# Altium integrated library TI Data Converters Analog to Digital Converter.IntLib: 2198 symbols (part 83 of 164)
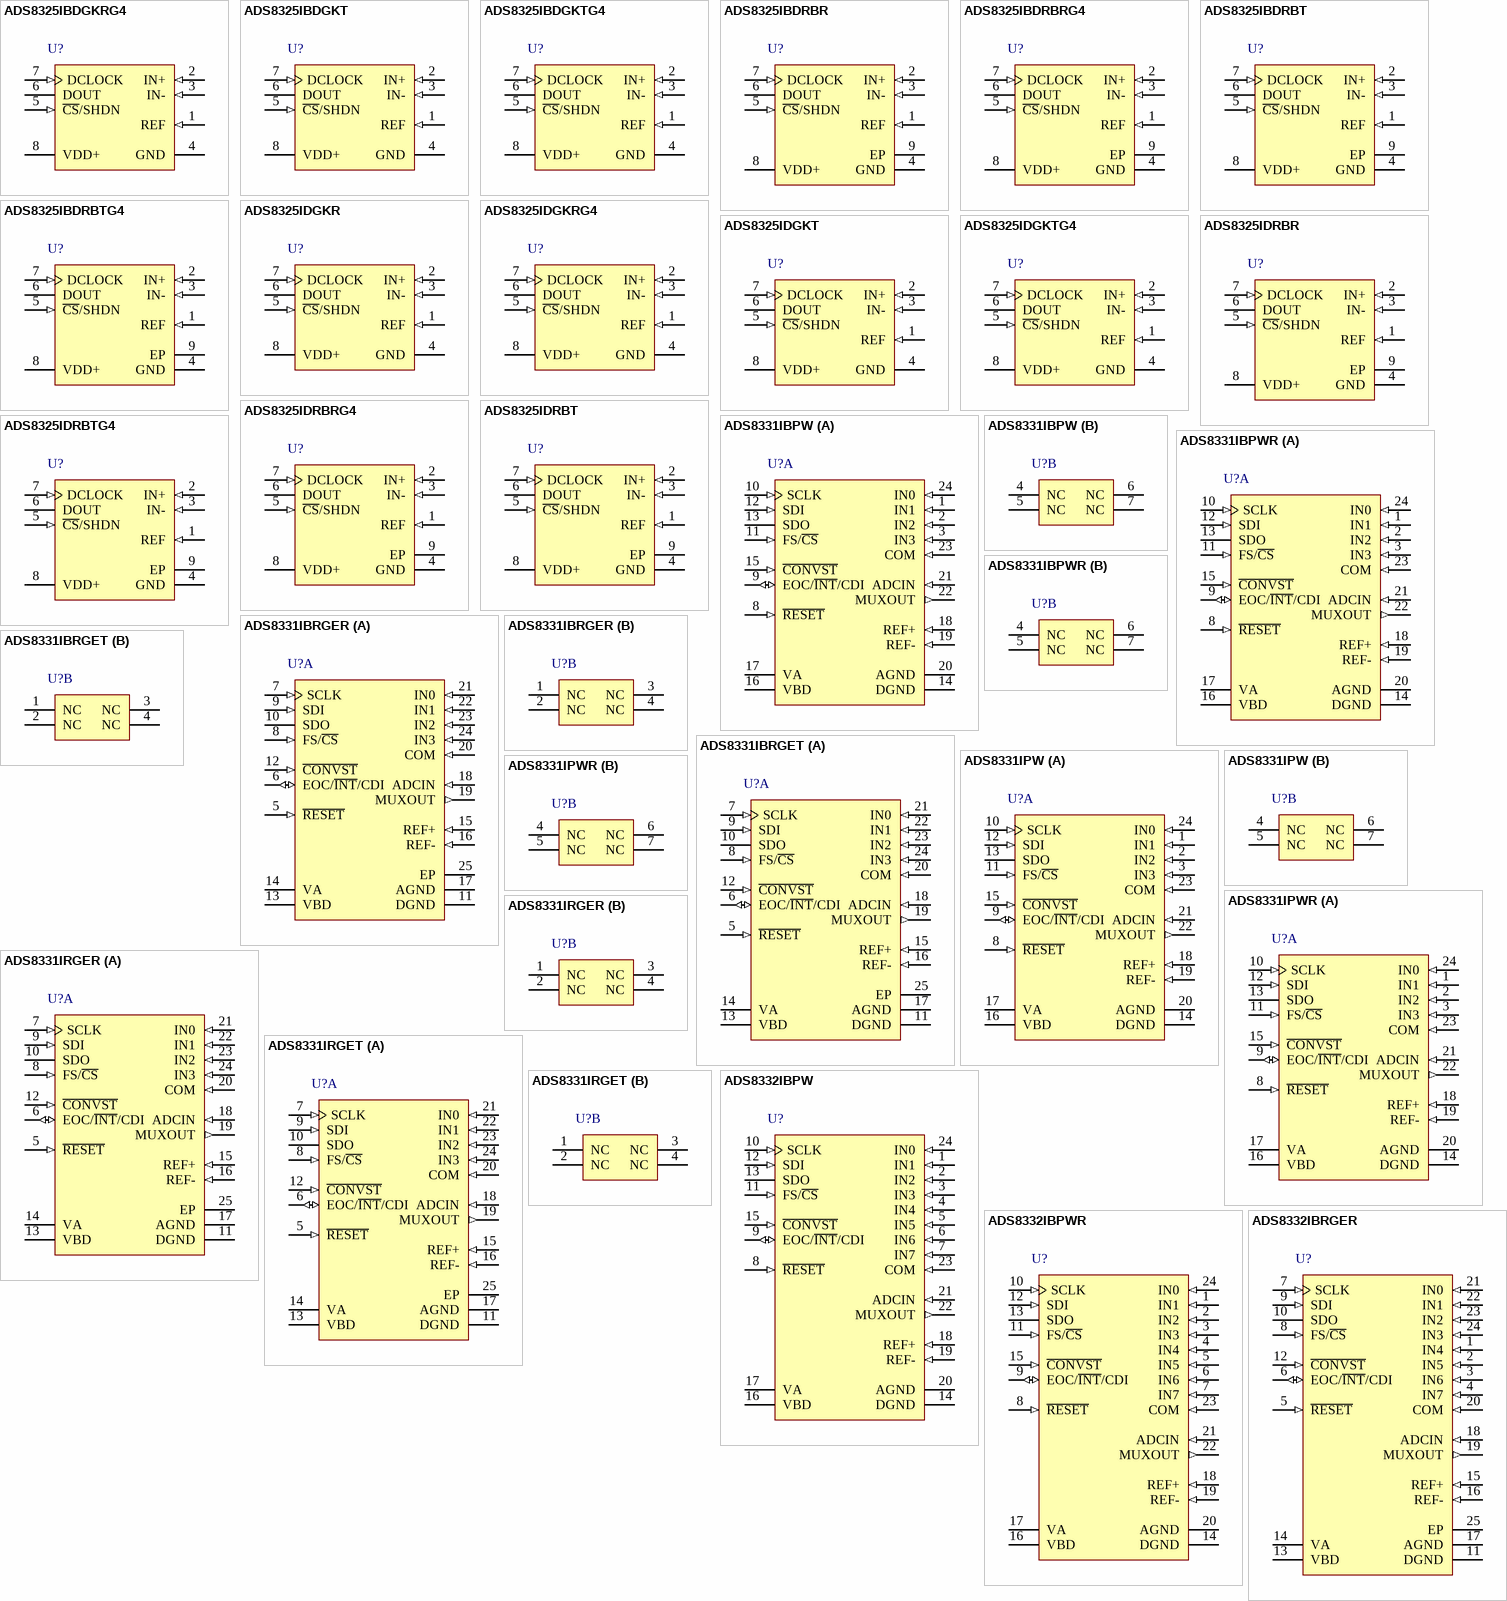
[diagram p208: symbols ADS8325IBDGKRG4 to ADS8332IBRGER]

## ADS8325IBDRBR
designator U?
16-Bit, 100 kSPS Serial Out, 2.7 to 5.5 V Micro Power Sampling ADC, -40 to 85 degC, 8-pin SON (DRB8), Green (RoHS & no Sb/Br); Manufacturer: Texas Instruments; PartNumber: ADS8325IBDRBR; # Input Channels: 1; Analog Voltage AV/DD(Max)(V): 5.5; Analog Voltage AV/DD(Min)(V): 2.7; Architecture: SAR; ENOB(Bits): 14.7; INL(Max)(+/-LSB): 4; Interface: Serial SPI; Resolution(Bits): 16; Sample Rate (max)(SPS): 100k; SFDR(dB): 108; SINAD(dB): 91; SubFamily: Precision ADC (<=10MSPS); DatasheetVersion: SBAS226C; PackageVersion: 4203482-2/K, 06/2012; PackageReference: DRB8-2400X1650TP; PackageDescription: 8-Pin Plastic Small Outline, Body 3 x 3 mm, Pitch 0.65 mm; Supplier 1: Digi-Key; Supplier Part Number 1: ADS803E-ND; Digital Supply(Max)(V): 5.5; Digital Supply(Min)(V): 2.7; Eco-Plan: Green (RoHS & no Sb/Br); SNR(dB): 91; Mounting Technology: Surface Mount; ComponentLink1Description: Manufacturer URL; ComponentLink1URL: http://www.ti.com/; ComponentLink2Description: Datasheet; ComponentLink2URL: http://www.ti.com/general/docs/lit/getliterature.tsp?genericPartNumber=ADS8325&fileType=pdf; ComponentLink3Description: Package Specification; ComponentLink3URL: http://www.ti.com/litv/pdf/mpds118h
footprint TI-DRB8-2400X1650TP_V (SON, 8-Leads, Body 3x3mm, Pitch 0.65mm, Thermal Pad 2.4x1.65mm)
pins: 1 REF (in) "Reference Input", 2 IN+ (in) "Noninverting Input", 3 IN- (in) "Inverting Analog Input", 4 GND (power) "Ground", 5 ~{CS}/SHDN (in) "Chip select when low; Shutdown mode when high.", 6 DOUT (hiz) "The serial output data word.", 7 DCLOCK (in) "Data clock synchronizes the serial data transfer and determines conversion speed.", 8 VDD+ (power) "Power supply", 9 EP (power)

## ADS8325IBDRBRG4
designator U?
16-Bit, 100 kSPS Serial Out, 2.7 to 5.5 V Micro Power Sampling ADC, -40 to 85 degC, 8-pin SON (DRB8), Green (RoHS & no Sb/Br); Manufacturer: Texas Instruments; PartNumber: ADS8325IBDRBRG4; # Input Channels: 1; Analog Voltage AV/DD(Max)(V): 5.5; Analog Voltage AV/DD(Min)(V): 2.7; Architecture: SAR; ENOB(Bits): 14.7; INL(Max)(+/-LSB): 4; Interface: Serial SPI; Resolution(Bits): 16; Sample Rate (max)(SPS): 100k; SFDR(dB): 108; SINAD(dB): 91; SubFamily: Precision ADC (<=10MSPS); DatasheetVersion: SBAS226C; PackageVersion: 4203482-2/K, 06/2012; PackageReference: DRB8-2400X1650TP; PackageDescription: 8-Pin Plastic Small Outline, Body 3 x 3 mm, Pitch 0.65 mm; Supplier 1: Digi-Key; Supplier Part Number 1: ADS803E/1K-ND; Digital Supply(Max)(V): 5.5; Digital Supply(Min)(V): 2.7; Eco-Plan: Green (RoHS & no Sb/Br); SNR(dB): 91; Mounting Technology: Surface Mount; ComponentLink1Description: Manufacturer URL; ComponentLink1URL: http://www.ti.com/; ComponentLink2Description: Datasheet; ComponentLink2URL: http://www.ti.com/general/docs/lit/getliterature.tsp?genericPartNumber=ADS8325&fileType=pdf; ComponentLink3Description: Package Specification; ComponentLink3URL: http://www.ti.com/litv/pdf/mpds118h
footprint TI-DRB8-2400X1650TP_V (SON, 8-Leads, Body 3x3mm, Pitch 0.65mm, Thermal Pad 2.4x1.65mm)
pins: 1 REF (in) "Reference Input", 2 IN+ (in) "Noninverting Input", 3 IN- (in) "Inverting Analog Input", 4 GND (power) "Ground", 5 ~{CS}/SHDN (in) "Chip select when low; Shutdown mode when high.", 6 DOUT (hiz) "The serial output data word.", 7 DCLOCK (in) "Data clock synchronizes the serial data transfer and determines conversion speed.", 8 VDD+ (power) "Power supply", 9 EP (power)

## ADS8325IBDRBT
designator U?
16-Bit, 100 kSPS Serial Out, 2.7 to 5.5 V Micro Power Sampling ADC, -40 to 85 degC, 8-pin SON (DRB8), Green (RoHS & no Sb/Br); Manufacturer: Texas Instruments; PartNumber: ADS8325IBDRBT; # Input Channels: 1; Analog Voltage AV/DD(Max)(V): 5.5; Analog Voltage AV/DD(Min)(V): 2.7; Architecture: SAR; ENOB(Bits): 14.7; INL(Max)(+/-LSB): 4; Interface: Serial SPI; Resolution(Bits): 16; Sample Rate (max)(SPS): 100k; SFDR(dB): 108; SINAD(dB): 91; SubFamily: Precision ADC (<=10MSPS); DatasheetVersion: SBAS226C; PackageVersion: 4203482-2/K, 06/2012; PackageReference: DRB8-2400X1650TP; PackageDescription: 8-Pin Plastic Small Outline, Body 3 x 3 mm, Pitch 0.65 mm; Supplier 1: Digi-Key; Supplier Part Number 1: ADS803E/1KG4-ND; Digital Supply(Max)(V): 5.5; Digital Supply(Min)(V): 2.7; Eco-Plan: Green (RoHS & no Sb/Br); SNR(dB): 91; Mounting Technology: Surface Mount; ComponentLink1Description: Manufacturer URL; ComponentLink1URL: http://www.ti.com/; ComponentLink2Description: Datasheet; ComponentLink2URL: http://www.ti.com/general/docs/lit/getliterature.tsp?genericPartNumber=ADS8325&fileType=pdf; ComponentLink3Description: Package Specification; ComponentLink3URL: http://www.ti.com/litv/pdf/mpds118h
footprint TI-DRB8-2400X1650TP_V (SON, 8-Leads, Body 3x3mm, Pitch 0.65mm, Thermal Pad 2.4x1.65mm)
pins: 1 REF (in) "Reference Input", 2 IN+ (in) "Noninverting Input", 3 IN- (in) "Inverting Analog Input", 4 GND (power) "Ground", 5 ~{CS}/SHDN (in) "Chip select when low; Shutdown mode when high.", 6 DOUT (hiz) "The serial output data word.", 7 DCLOCK (in) "Data clock synchronizes the serial data transfer and determines conversion speed.", 8 VDD+ (power) "Power supply", 9 EP (power)

## ADS8325IBDRBTG4
designator U?
16-Bit, 100 kSPS Serial Out, 2.7 to 5.5 V Micro Power Sampling ADC, -40 to 85 degC, 8-pin SON (DRB8), Green (RoHS & no Sb/Br); Manufacturer: Texas Instruments; PartNumber: ADS8325IBDRBTG4; # Input Channels: 1; Analog Voltage AV/DD(Max)(V): 5.5; Analog Voltage AV/DD(Min)(V): 2.7; Architecture: SAR; ENOB(Bits): 14.7; INL(Max)(+/-LSB): 4; Interface: Serial SPI; Resolution(Bits): 16; Sample Rate (max)(SPS): 100k; SFDR(dB): 108; SINAD(dB): 91; SubFamily: Precision ADC (<=10MSPS); DatasheetVersion: SBAS226C; PackageVersion: 4203482-2/K, 06/2012; PackageReference: DRB8-2400X1650TP; PackageDescription: 8-Pin Plastic Small Outline, Body 3 x 3 mm, Pitch 0.65 mm; Supplier 1: Digi-Key; Supplier Part Number 1: ADS803EG4-ND; Digital Supply(Max)(V): 5.5; Digital Supply(Min)(V): 2.7; Eco-Plan: Green (RoHS & no Sb/Br); SNR(dB): 91; Mounting Technology: Surface Mount; ComponentLink1Description: Manufacturer URL; ComponentLink1URL: http://www.ti.com/; ComponentLink2Description: Datasheet; ComponentLink2URL: http://www.ti.com/general/docs/lit/getliterature.tsp?genericPartNumber=ADS8325&fileType=pdf; ComponentLink3Description: Package Specification; ComponentLink3URL: http://www.ti.com/litv/pdf/mpds118h
footprint TI-DRB8-2400X1650TP_V (SON, 8-Leads, Body 3x3mm, Pitch 0.65mm, Thermal Pad 2.4x1.65mm)
pins: 1 REF (in) "Reference Input", 2 IN+ (in) "Noninverting Input", 3 IN- (in) "Inverting Analog Input", 4 GND (power) "Ground", 5 ~{CS}/SHDN (in) "Chip select when low; Shutdown mode when high.", 6 DOUT (hiz) "The serial output data word.", 7 DCLOCK (in) "Data clock synchronizes the serial data transfer and determines conversion speed.", 8 VDD+ (power) "Power supply", 9 EP (power)

## ADS8325IDGKR
designator U?
16-Bit, 100 kSPS Serial Out, 2.7 to 5.5 V Micro Power Sampling ADC, -40 to 85 degC, 8-pin SOP (DGK8), Green (RoHS & no Sb/Br); Manufacturer: Texas Instruments; PartNumber: ADS8325IDGKR; # Input Channels: 1; Analog Voltage AV/DD(Max)(V): 5.5; Analog Voltage AV/DD(Min)(V): 2.7; Architecture: SAR; ENOB(Bits): 14.6; INL(Max)(+/-LSB): 6; Interface: Serial SPI; Resolution(Bits): 16; Sample Rate (max)(SPS): 100k; SFDR(dB): 100; SINAD(dB): 90; SubFamily: Precision ADC (<=10MSPS); DatasheetVersion: SBAS226C; PackageVersion: 4073329/E, 05/2006; PackageReference: DGK8; PackageDescription: 8-Pin Thin Small Outline, Body 3 x 3 mm, Pitch 0.65 mm; Supplier 1: Digi-Key; Supplier Part Number 1: ADS931E-ND; Digital Supply(Max)(V): 5.5; Digital Supply(Min)(V): 2.7; Eco-Plan: Green (RoHS & no Sb/Br); SNR(dB): 90; Mounting Technology: Surface Mount; Code_JEDEC: MO-187; ComponentLink1Description: Manufacturer URL; ComponentLink1URL: http://www.ti.com/; ComponentLink2Description: Datasheet; ComponentLink2URL: http://www.ti.com/general/docs/lit/getliterature.tsp?genericPartNumber=ADS8325&fileType=pdf; ComponentLink3Description: Package Specification; ComponentLink3URL: http://www.ti.com/litv/pdf/mpds028d
footprint TI-DGK8_N (SOP, 8-Leads, Body 3x3mm, Pitch 0.65mm, IPC Medium Density)
footprint TI-DGK8_L (SOP, 8-Leads, Body 3x3mm, Pitch 0.65mm, IPC High Density)
footprint TI-DGK8_M (SOP, 8-Leads, Body 3x3mm, Pitch 0.65mm, IPC Low Density)
pins: 1 REF (in) "Reference Input", 2 IN+ (in) "Noninverting Input", 3 IN- (in) "Inverting Analog Input", 4 GND (power) "Ground", 5 ~{CS}/SHDN (in) "Chip select when low; Shutdown mode when high.", 6 DOUT (hiz) "The serial output data word.", 7 DCLOCK (in) "Data clock synchronizes the serial data transfer and determines conversion speed.", 8 VDD+ (power) "Power supply"

## ADS8325IDGKRG4
designator U?
16-Bit, 100 kSPS Serial Out, 2.7 to 5.5 V Micro Power Sampling ADC, -40 to 85 degC, 8-pin SOP (DGK8), Green (RoHS & no Sb/Br); Manufacturer: Texas Instruments; PartNumber: ADS8325IDGKRG4; # Input Channels: 1; Analog Voltage AV/DD(Max)(V): 5.5; Analog Voltage AV/DD(Min)(V): 2.7; Architecture: SAR; ENOB(Bits): 14.6; INL(Max)(+/-LSB): 6; Interface: Serial SPI; Resolution(Bits): 16; Sample Rate (max)(SPS): 100k; SFDR(dB): 100; SINAD(dB): 90; SubFamily: Precision ADC (<=10MSPS); DatasheetVersion: SBAS226C; PackageVersion: 4073329/E, 05/2006; PackageReference: DGK8; PackageDescription: 8-Pin Thin Small Outline, Body 3 x 3 mm, Pitch 0.65 mm; Supplier 1: Digi-Key; Supplier Part Number 1: ADS931E/1K-ND; Digital Supply(Max)(V): 5.5; Digital Supply(Min)(V): 2.7; Eco-Plan: Green (RoHS & no Sb/Br); SNR(dB): 90; Mounting Technology: Surface Mount; Code_JEDEC: MO-187; ComponentLink1Description: Manufacturer URL; ComponentLink1URL: http://www.ti.com/; ComponentLink2Description: Datasheet; ComponentLink2URL: http://www.ti.com/general/docs/lit/getliterature.tsp?genericPartNumber=ADS8325&fileType=pdf; ComponentLink3Description: Package Specification; ComponentLink3URL: http://www.ti.com/litv/pdf/mpds028d
footprint TI-DGK8_N (SOP, 8-Leads, Body 3x3mm, Pitch 0.65mm, IPC Medium Density)
footprint TI-DGK8_L (SOP, 8-Leads, Body 3x3mm, Pitch 0.65mm, IPC High Density)
footprint TI-DGK8_M (SOP, 8-Leads, Body 3x3mm, Pitch 0.65mm, IPC Low Density)
pins: 1 REF (in) "Reference Input", 2 IN+ (in) "Noninverting Input", 3 IN- (in) "Inverting Analog Input", 4 GND (power) "Ground", 5 ~{CS}/SHDN (in) "Chip select when low; Shutdown mode when high.", 6 DOUT (hiz) "The serial output data word.", 7 DCLOCK (in) "Data clock synchronizes the serial data transfer and determines conversion speed.", 8 VDD+ (power) "Power supply"

## ADS8325IDGKT
designator U?
16-Bit, 100 kSPS Serial Out, 2.7 to 5.5 V Micro Power Sampling ADC, -40 to 85 degC, 8-pin SOP (DGK8), Green (RoHS & no Sb/Br); Manufacturer: Texas Instruments; PartNumber: ADS8325IDGKT; # Input Channels: 1; Analog Voltage AV/DD(Max)(V): 5.5; Analog Voltage AV/DD(Min)(V): 2.7; Architecture: SAR; ENOB(Bits): 14.6; INL(Max)(+/-LSB): 6; Interface: Serial SPI; Resolution(Bits): 16; Sample Rate (max)(SPS): 100k; SFDR(dB): 100; SINAD(dB): 90; SubFamily: Precision ADC (<=10MSPS); DatasheetVersion: SBAS226C; PackageVersion: 4073329/E, 05/2006; PackageReference: DGK8; PackageDescription: 8-Pin Thin Small Outline, Body 3 x 3 mm, Pitch 0.65 mm; Supplier 1: Digi-Key; Supplier Part Number 1: ADS931E/1KG4-ND; Digital Supply(Max)(V): 5.5; Digital Supply(Min)(V): 2.7; Eco-Plan: Green (RoHS & no Sb/Br); SNR(dB): 90; Mounting Technology: Surface Mount; Code_JEDEC: MO-187; ComponentLink1Description: Manufacturer URL; ComponentLink1URL: http://www.ti.com/; ComponentLink2Description: Datasheet; ComponentLink2URL: http://www.ti.com/general/docs/lit/getliterature.tsp?genericPartNumber=ADS8325&fileType=pdf; ComponentLink3Description: Package Specification; ComponentLink3URL: http://www.ti.com/litv/pdf/mpds028d
footprint TI-DGK8_N (SOP, 8-Leads, Body 3x3mm, Pitch 0.65mm, IPC Medium Density)
footprint TI-DGK8_L (SOP, 8-Leads, Body 3x3mm, Pitch 0.65mm, IPC High Density)
footprint TI-DGK8_M (SOP, 8-Leads, Body 3x3mm, Pitch 0.65mm, IPC Low Density)
pins: 1 REF (in) "Reference Input", 2 IN+ (in) "Noninverting Input", 3 IN- (in) "Inverting Analog Input", 4 GND (power) "Ground", 5 ~{CS}/SHDN (in) "Chip select when low; Shutdown mode when high.", 6 DOUT (hiz) "The serial output data word.", 7 DCLOCK (in) "Data clock synchronizes the serial data transfer and determines conversion speed.", 8 VDD+ (power) "Power supply"

## ADS8325IDGKTG4
designator U?
16-Bit, 100 kSPS Serial Out, 2.7 to 5.5 V Micro Power Sampling ADC, -40 to 85 degC, 8-pin SOP (DGK8), Green (RoHS & no Sb/Br); Manufacturer: Texas Instruments; PartNumber: ADS8325IDGKTG4; # Input Channels: 1; Analog Voltage AV/DD(Max)(V): 5.5; Analog Voltage AV/DD(Min)(V): 2.7; Architecture: SAR; ENOB(Bits): 14.6; INL(Max)(+/-LSB): 6; Interface: Serial SPI; Resolution(Bits): 16; Sample Rate (max)(SPS): 100k; SFDR(dB): 100; SINAD(dB): 90; SubFamily: Precision ADC (<=10MSPS); DatasheetVersion: SBAS226C; PackageVersion: 4073329/E, 05/2006; PackageReference: DGK8; PackageDescription: 8-Pin Thin Small Outline, Body 3 x 3 mm, Pitch 0.65 mm; Supplier 1: Digi-Key; Supplier Part Number 1: ADS931EG4-ND; Digital Supply(Max)(V): 5.5; Digital Supply(Min)(V): 2.7; Eco-Plan: Green (RoHS & no Sb/Br); SNR(dB): 90; Mounting Technology: Surface Mount; Code_JEDEC: MO-187; ComponentLink1Description: Manufacturer URL; ComponentLink1URL: http://www.ti.com/; ComponentLink2Description: Datasheet; ComponentLink2URL: http://www.ti.com/general/docs/lit/getliterature.tsp?genericPartNumber=ADS8325&fileType=pdf; ComponentLink3Description: Package Specification; ComponentLink3URL: http://www.ti.com/litv/pdf/mpds028d
footprint TI-DGK8_N (SOP, 8-Leads, Body 3x3mm, Pitch 0.65mm, IPC Medium Density)
footprint TI-DGK8_L (SOP, 8-Leads, Body 3x3mm, Pitch 0.65mm, IPC High Density)
footprint TI-DGK8_M (SOP, 8-Leads, Body 3x3mm, Pitch 0.65mm, IPC Low Density)
pins: 1 REF (in) "Reference Input", 2 IN+ (in) "Noninverting Input", 3 IN- (in) "Inverting Analog Input", 4 GND (power) "Ground", 5 ~{CS}/SHDN (in) "Chip select when low; Shutdown mode when high.", 6 DOUT (hiz) "The serial output data word.", 7 DCLOCK (in) "Data clock synchronizes the serial data transfer and determines conversion speed.", 8 VDD+ (power) "Power supply"

## ADS8325IDRBR
designator U?
16-Bit, 100 kSPS Serial Out, 2.7 to 5.5 V Micro Power Sampling ADC, -40 to 85 degC, 8-pin SON (DRB8), Green (RoHS & no Sb/Br); Manufacturer: Texas Instruments; PartNumber: ADS8325IDRBR; # Input Channels: 1; Analog Voltage AV/DD(Max)(V): 5.5; Analog Voltage AV/DD(Min)(V): 2.7; Architecture: SAR; ENOB(Bits): 14.6; INL(Max)(+/-LSB): 6; Interface: Serial SPI; Resolution(Bits): 16; Sample Rate (max)(SPS): 100k; SFDR(dB): 100; SINAD(dB): 90; SubFamily: Precision ADC (<=10MSPS); DatasheetVersion: SBAS226C; PackageVersion: 4203482-2/K, 06/2012; PackageReference: DRB8-2400X1650TP; PackageDescription: 8-Pin Plastic Small Outline, Body 3 x 3 mm, Pitch 0.65 mm; Supplier 1: Digi-Key; Supplier Part Number 1: ADS930E-ND; Digital Supply(Max)(V): 5.5; Digital Supply(Min)(V): 2.7; Eco-Plan: Green (RoHS & no Sb/Br); SNR(dB): 90; Mounting Technology: Surface Mount; ComponentLink1Description: Manufacturer URL; ComponentLink1URL: http://www.ti.com/; ComponentLink2Description: Datasheet; ComponentLink2URL: http://www.ti.com/general/docs/lit/getliterature.tsp?genericPartNumber=ADS8325&fileType=pdf; ComponentLink3Description: Package Specification; ComponentLink3URL: http://www.ti.com/litv/pdf/mpds118h
footprint TI-DRB8-2400X1650TP_V (SON, 8-Leads, Body 3x3mm, Pitch 0.65mm, Thermal Pad 2.4x1.65mm)
pins: 1 REF (in) "Reference Input", 2 IN+ (in) "Noninverting Input", 3 IN- (in) "Inverting Analog Input", 4 GND (power) "Ground", 5 ~{CS}/SHDN (in) "Chip select when low; Shutdown mode when high.", 6 DOUT (hiz) "The serial output data word.", 7 DCLOCK (in) "Data clock synchronizes the serial data transfer and determines conversion speed.", 8 VDD+ (power) "Power supply", 9 EP (power)

## ADS8325IDRBRG4
designator U?
16-Bit, 100 kSPS Serial Out, 2.7 to 5.5 V Micro Power Sampling ADC, -40 to 85 degC, 8-pin SON (DRB8), Green (RoHS & no Sb/Br); Manufacturer: Texas Instruments; PartNumber: ADS8325IDRBRG4; # Input Channels: 1; Analog Voltage AV/DD(Max)(V): 5.5; Analog Voltage AV/DD(Min)(V): 2.7; Architecture: SAR; ENOB(Bits): 14.6; INL(Max)(+/-LSB): 6; Interface: Serial SPI; Resolution(Bits): 16; Sample Rate (max)(SPS): 100k; SFDR(dB): 100; SINAD(dB): 90; SubFamily: Precision ADC (<=10MSPS); DatasheetVersion: SBAS226C; PackageVersion: 4203482-2/K, 06/2012; PackageReference: DRB8-2400X1650TP; PackageDescription: 8-Pin Plastic Small Outline, Body 3 x 3 mm, Pitch 0.65 mm; Supplier 1: Digi-Key; Supplier Part Number 1: ADS930E/1K-ND; Digital Supply(Max)(V): 5.5; Digital Supply(Min)(V): 2.7; Eco-Plan: Green (RoHS & no Sb/Br); SNR(dB): 90; Mounting Technology: Surface Mount; ComponentLink1Description: Manufacturer URL; ComponentLink1URL: http://www.ti.com/; ComponentLink2Description: Datasheet; ComponentLink2URL: http://www.ti.com/general/docs/lit/getliterature.tsp?genericPartNumber=ADS8325&fileType=pdf; ComponentLink3Description: Package Specification; ComponentLink3URL: http://www.ti.com/litv/pdf/mpds118h
footprint TI-DRB8-2400X1650TP_V (SON, 8-Leads, Body 3x3mm, Pitch 0.65mm, Thermal Pad 2.4x1.65mm)
pins: 1 REF (in) "Reference Input", 2 IN+ (in) "Noninverting Input", 3 IN- (in) "Inverting Analog Input", 4 GND (power) "Ground", 5 ~{CS}/SHDN (in) "Chip select when low; Shutdown mode when high.", 6 DOUT (hiz) "The serial output data word.", 7 DCLOCK (in) "Data clock synchronizes the serial data transfer and determines conversion speed.", 8 VDD+ (power) "Power supply", 9 EP (power)

## ADS8325IDRBT
designator U?
16-Bit, 100 kSPS Serial Out, 2.7 to 5.5 V Micro Power Sampling ADC, -40 to 85 degC, 8-pin SON (DRB8), Green (RoHS & no Sb/Br); Manufacturer: Texas Instruments; PartNumber: ADS8325IDRBT; # Input Channels: 1; Analog Voltage AV/DD(Max)(V): 5.5; Analog Voltage AV/DD(Min)(V): 2.7; Architecture: SAR; ENOB(Bits): 14.6; INL(Max)(+/-LSB): 6; Interface: Serial SPI; Resolution(Bits): 16; Sample Rate (max)(SPS): 100k; SFDR(dB): 100; SINAD(dB): 90; SubFamily: Precision ADC (<=10MSPS); DatasheetVersion: SBAS226C; PackageVersion: 4203482-2/K, 06/2012; PackageReference: DRB8-2400X1650TP; PackageDescription: 8-Pin Plastic Small Outline, Body 3 x 3 mm, Pitch 0.65 mm; Supplier 1: Digi-Key; Supplier Part Number 1: ADS930E/1KG4-ND; Digital Supply(Max)(V): 5.5; Digital Supply(Min)(V): 2.7; Eco-Plan: Green (RoHS & no Sb/Br); SNR(dB): 90; Mounting Technology: Surface Mount; ComponentLink1Description: Manufacturer URL; ComponentLink1URL: http://www.ti.com/; ComponentLink2Description: Datasheet; ComponentLink2URL: http://www.ti.com/general/docs/lit/getliterature.tsp?genericPartNumber=ADS8325&fileType=pdf; ComponentLink3Description: Package Specification; ComponentLink3URL: http://www.ti.com/litv/pdf/mpds118h
footprint TI-DRB8-2400X1650TP_V (SON, 8-Leads, Body 3x3mm, Pitch 0.65mm, Thermal Pad 2.4x1.65mm)
pins: 1 REF (in) "Reference Input", 2 IN+ (in) "Noninverting Input", 3 IN- (in) "Inverting Analog Input", 4 GND (power) "Ground", 5 ~{CS}/SHDN (in) "Chip select when low; Shutdown mode when high.", 6 DOUT (hiz) "The serial output data word.", 7 DCLOCK (in) "Data clock synchronizes the serial data transfer and determines conversion speed.", 8 VDD+ (power) "Power supply", 9 EP (power)

## ADS8325IDRBTG4
designator U?
16-Bit, 100 kSPS Serial Out, 2.7 to 5.5 V Micro Power Sampling ADC, -40 to 85 degC, 8-pin SON (DRB8), Green (RoHS & no Sb/Br); Manufacturer: Texas Instruments; PartNumber: ADS8325IDRBTG4; # Input Channels: 1; Analog Voltage AV/DD(Max)(V): 5.5; Analog Voltage AV/DD(Min)(V): 2.7; Architecture: SAR; ENOB(Bits): 14.6; INL(Max)(+/-LSB): 6; Interface: Serial SPI; Resolution(Bits): 16; Sample Rate (max)(SPS): 100k; SFDR(dB): 100; SINAD(dB): 90; SubFamily: Precision ADC (<=10MSPS); DatasheetVersion: SBAS226C; PackageVersion: 4203482-2/K, 06/2012; PackageReference: DRB8-2400X1650TP; PackageDescription: 8-Pin Plastic Small Outline, Body 3 x 3 mm, Pitch 0.65 mm; Supplier 1: Digi-Key; Supplier Part Number 1: ADS930EG4-ND; Digital Supply(Max)(V): 5.5; Digital Supply(Min)(V): 2.7; Eco-Plan: Green (RoHS & no Sb/Br); SNR(dB): 90; Mounting Technology: Surface Mount; ComponentLink1Description: Manufacturer URL; ComponentLink1URL: http://www.ti.com/; ComponentLink2Description: Datasheet; ComponentLink2URL: http://www.ti.com/general/docs/lit/getliterature.tsp?genericPartNumber=ADS8325&fileType=pdf; ComponentLink3Description: Package Specification; ComponentLink3URL: http://www.ti.com/litv/pdf/mpds118h
footprint TI-DRB8-2400X1650TP_V (SON, 8-Leads, Body 3x3mm, Pitch 0.65mm, Thermal Pad 2.4x1.65mm)
pins: 1 REF (in) "Reference Input", 2 IN+ (in) "Noninverting Input", 3 IN- (in) "Inverting Analog Input", 4 GND (power) "Ground", 5 ~{CS}/SHDN (in) "Chip select when low; Shutdown mode when high.", 6 DOUT (hiz) "The serial output data word.", 7 DCLOCK (in) "Data clock synchronizes the serial data transfer and determines conversion speed.", 8 VDD+ (power) "Power supply", 9 EP (power)

## ADS8331IBPW
designator U?
2.7 to 5.5 V, 16-Bit 500 kSPS Low Power Serial ADC, -40 to 85 degC, 24-pin SOP (PW24), Green (RoHS & no Sb/Br); Manufacturer: Texas Instruments; PartNumber: ADS8331IBPW; # Input Channels: 4; Analog Voltage AV/DD(Max)(V): 5.5; Analog Voltage AV/DD(Min)(V): 2.7; Architecture: SAR; Digital Supply(Min)(V): 1.65; INL(Max)(+/-LSB): 2; Resolution(Bits): 16; Sample Rate (max)(SPS): 500k; SFDR(dB): 103; SINAD(dB): 88.5; SNR(dB): 89; SubFamily: Precision ADC (<=10MSPS); DatasheetVersion: SBAS363C; PackageVersion: 4040064-6/G, 02/2011; PackageReference: PW24; PackageDescription: 24-Pin Plastic Small Outline, Body 7.8 x 4.4 mm, Pitch 0.65 mm; Supplier 1: Digi-Key; Supplier Part Number 1: ADS7818ETR-ND; Digital Supply(Max)(V): 5.5; Eco-Plan: Green (RoHS & no Sb/Br); Mounting Technology: Surface Mount; Code_JEDEC: MO-153; ComponentLink1Description: Manufacturer URL; ComponentLink1URL: http://www.ti.com/; ComponentLink2Description: Datasheet; ComponentLink2URL: http://www.ti.com/general/docs/lit/getliterature.tsp?genericPartNumber=ADS8331&fileType=pdf; ComponentLink3Description: Package Specification; ComponentLink3URL: http://www.ti.com/litv/pdf/mpds363
footprint TI-PW24_N (SOP, 24-Leads, Body 7.8x4.4mm, Pitch 0.65mm, IPC Medium Density)
footprint TI-PW24_L (SOP, 24-Leads, Body 7.8x4.4mm, Pitch 0.65mm, IPC High Density)
footprint TI-PW24_M (SOP, 24-Leads, Body 7.8x4.4mm, Pitch 0.65mm, IPC Low Density)
part A pins: 1 IN1 (in) "Mux inputs", 2 IN2 (in) "Mux inputs", 3 IN3 (in) "Mux inputs", 8 ~{RESET} (in) "External reset (active low)", 9 EOC/~{INT}/CDI (io), 10 SCLK (in) "SPI clock for serial interface", 11 FS/~{CS} (in), 12 SDI (in) "SPI serial data in", 13 SDO (hiz) "SPI serial data out", 14 DGND (power) "Digital interface ground", 15 ~{CONVST} (in) "Conversion start. Freezes sample and hold, starts conversion.", 16 VBD (power) "Digital interface supply", 17 VA (power) "Analog supply, +2.7V to +5.5V", 18 REF+ (in) "External reference input", 19 REF- (in) "External reference ground (connect to AGND through an individual via on the printed circuit board)", 20 AGND (power) "Analog ground", 21 ADCIN (in) "ADC input", 22 MUXOUT (out) "Mux output", 23 COM (in) "Common ADC input (usually connected to AGND)", 24 IN0 (in) "Mux inputs"
part B pins: 4 NC "No connection", 5 NC "No connection", 6 NC "No connection", 7 NC "No connection"

## ADS8331IBPWR
designator U?
2.7 to 5.5 V, 16-Bit 500 kSPS Low Power Serial ADC, -40 to 85 degC, 24-pin SOP (PW24), Green (RoHS & no Sb/Br); Manufacturer: Texas Instruments; PartNumber: ADS8331IBPWR; # Input Channels: 4; Analog Voltage AV/DD(Max)(V): 5.5; Analog Voltage AV/DD(Min)(V): 2.7; Architecture: SAR; Digital Supply(Min)(V): 1.65; INL(Max)(+/-LSB): 2; Resolution(Bits): 16; Sample Rate (max)(SPS): 500k; SFDR(dB): 103; SINAD(dB): 88.5; SNR(dB): 89; SubFamily: Precision ADC (<=10MSPS); DatasheetVersion: SBAS363C; PackageVersion: 4040064-6/G, 02/2011; PackageReference: PW24; PackageDescription: 24-Pin Plastic Small Outline, Body 7.8 x 4.4 mm, Pitch 0.65 mm; Supplier 1: Digi-Key; Supplier Part Number 1: ADS7818E/250G4-ND; Digital Supply(Max)(V): 5.5; Eco-Plan: Green (RoHS & no Sb/Br); Mounting Technology: Surface Mount; Code_JEDEC: MO-153; ComponentLink1Description: Manufacturer URL; ComponentLink1URL: http://www.ti.com/; ComponentLink2Description: Datasheet; ComponentLink2URL: http://www.ti.com/general/docs/lit/getliterature.tsp?genericPartNumber=ADS8331&fileType=pdf; ComponentLink3Description: Package Specification; ComponentLink3URL: http://www.ti.com/litv/pdf/mpds363
footprint TI-PW24_N (SOP, 24-Leads, Body 7.8x4.4mm, Pitch 0.65mm, IPC Medium Density)
footprint TI-PW24_L (SOP, 24-Leads, Body 7.8x4.4mm, Pitch 0.65mm, IPC High Density)
footprint TI-PW24_M (SOP, 24-Leads, Body 7.8x4.4mm, Pitch 0.65mm, IPC Low Density)
part A pins: 1 IN1 (in) "Mux inputs", 2 IN2 (in) "Mux inputs", 3 IN3 (in) "Mux inputs", 8 ~{RESET} (in) "External reset (active low)", 9 EOC/~{INT}/CDI (io), 10 SCLK (in) "SPI clock for serial interface", 11 FS/~{CS} (in), 12 SDI (in) "SPI serial data in", 13 SDO (hiz) "SPI serial data out", 14 DGND (power) "Digital interface ground", 15 ~{CONVST} (in) "Conversion start. Freezes sample and hold, starts conversion.", 16 VBD (power) "Digital interface supply", 17 VA (power) "Analog supply, +2.7V to +5.5V", 18 REF+ (in) "External reference input", 19 REF- (in) "External reference ground (connect to AGND through an individual via on the printed circuit board)", 20 AGND (power) "Analog ground", 21 ADCIN (in) "ADC input", 22 MUXOUT (out) "Mux output", 23 COM (in) "Common ADC input (usually connected to AGND)", 24 IN0 (in) "Mux inputs"
part B pins: 4 NC "No connection", 5 NC "No connection", 6 NC "No connection", 7 NC "No connection"

## ADS8331IBRGER
designator U?
2.7 to 5.5 V, 16-Bit 500 kSPS Low Power Serial ADC, -40 to 85 degC, 24-pin QFN (RGE24), Green (RoHS & no Sb/Br); Manufacturer: Texas Instruments; PartNumber: ADS8331IBRGER; # Input Channels: 4; Analog Voltage AV/DD(Max)(V): 5.5; Analog Voltage AV/DD(Min)(V): 2.7; Architecture: SAR; Digital Supply(Min)(V): 1.65; INL(Max)(+/-LSB): 2; Resolution(Bits): 16; Sample Rate (max)(SPS): 500k; SFDR(dB): 103; SINAD(dB): 88.5; SNR(dB): 89; SubFamily: Precision ADC (<=10MSPS); DatasheetVersion: SBAS363C; PackageVersion: 4204104/G, 07/2011; PackageReference: RGE24-2800X2800TP; PackageDescription: 24-Pin Plastic Flat Pack, Body 4 x 4 mm, Pitch 0.5 mm; Supplier 1: Digi-Key; Supplier Part Number 1: ADS7818E/2K5-ND; Digital Supply(Max)(V): 5.5; Eco-Plan: Green (RoHS & no Sb/Br); Mounting Technology: Surface Mount; Code_JEDEC: MO-220; ComponentLink1Description: Manufacturer URL; ComponentLink1URL: http://www.ti.com/; ComponentLink2Description: Datasheet; ComponentLink2URL: http://www.ti.com/general/docs/lit/getliterature.tsp?genericPartNumber=ADS8331&fileType=pdf; ComponentLink3Description: Package Specification; ComponentLink3URL: http://www.ti.com/litv/pdf/mpqf124f
footprint TI-RGE24-2800X2800TP_V (QFN, 24-Leads, Body 4x4mm, Pitch 0.5mm, Thermal Pad 2.8X2.8mm)
part A pins: 5 ~{RESET} (in) "External reset (active low)", 6 EOC/~{INT}/CDI (io), 7 SCLK (in) "SPI clock for serial interface", 8 FS/~{CS} (in), 9 SDI (in) "SPI serial data in", 10 SDO (hiz) "SPI serial data out", 11 DGND (power) "Digital interface ground", 12 ~{CONVST} (in) "Conversion start. Freezes sample and hold, starts conversion.", 13 VBD (power) "Digital interface supply", 14 VA (power) "Analog supply, +2.7V to +5.5V", 15 REF+ (in) "External reference input", 16 REF- (in) "External reference ground (connect to AGND through an individual via on the printed circuit board)", 17 AGND (power) "Analog ground", 18 ADCIN (in) "ADC input", 19 MUXOUT (out) "Mux output", 20 COM (in) "Common ADC input (usually connected to AGND)", 21 IN0 (in) "Mux inputs", 22 IN1 (in) "Mux inputs", 23 IN2 (in) "Mux inputs", 24 IN3 (in) "Mux inputs", 25 EP (power)
part B pins: 1 NC "No connection", 2 NC "No connection", 3 NC "No connection", 4 NC "No connection"

## ADS8331IBRGET
designator U?
2.7 to 5.5 V, 16-Bit 500 kSPS Low Power Serial ADC, -40 to 85 degC, 24-pin QFN (RGE24), Green (RoHS & no Sb/Br); Manufacturer: Texas Instruments; PartNumber: ADS8331IBRGET; # Input Channels: 4; Analog Voltage AV/DD(Max)(V): 5.5; Analog Voltage AV/DD(Min)(V): 2.7; Architecture: SAR; Digital Supply(Min)(V): 1.65; INL(Max)(+/-LSB): 2; Resolution(Bits): 16; Sample Rate (max)(SPS): 500k; SFDR(dB): 103; SINAD(dB): 88.5; SNR(dB): 89; SubFamily: Precision ADC (<=10MSPS); DatasheetVersion: SBAS363C; PackageVersion: 4204104/G, 07/2011; PackageReference: RGE24-2800X2800TP; PackageDescription: 24-Pin Plastic Flat Pack, Body 4 x 4 mm, Pitch 0.5 mm; Supplier 1: Digi-Key; Supplier Part Number 1: ADS7818E/2K5G4-ND; Digital Supply(Max)(V): 5.5; Eco-Plan: Green (RoHS & no Sb/Br); Mounting Technology: Surface Mount; Code_JEDEC: MO-220; ComponentLink1Description: Manufacturer URL; ComponentLink1URL: http://www.ti.com/; ComponentLink2Description: Datasheet; ComponentLink2URL: http://www.ti.com/general/docs/lit/getliterature.tsp?genericPartNumber=ADS8331&fileType=pdf; ComponentLink3Description: Package Specification; ComponentLink3URL: http://www.ti.com/litv/pdf/mpqf124f
footprint TI-RGE24-2800X2800TP_V (QFN, 24-Leads, Body 4x4mm, Pitch 0.5mm, Thermal Pad 2.8X2.8mm)
part A pins: 5 ~{RESET} (in) "External reset (active low)", 6 EOC/~{INT}/CDI (io), 7 SCLK (in) "SPI clock for serial interface", 8 FS/~{CS} (in), 9 SDI (in) "SPI serial data in", 10 SDO (hiz) "SPI serial data out", 11 DGND (power) "Digital interface ground", 12 ~{CONVST} (in) "Conversion start. Freezes sample and hold, starts conversion.", 13 VBD (power) "Digital interface supply", 14 VA (power) "Analog supply, +2.7V to +5.5V", 15 REF+ (in) "External reference input", 16 REF- (in) "External reference ground (connect to AGND through an individual via on the printed circuit board)", 17 AGND (power) "Analog ground", 18 ADCIN (in) "ADC input", 19 MUXOUT (out) "Mux output", 20 COM (in) "Common ADC input (usually connected to AGND)", 21 IN0 (in) "Mux inputs", 22 IN1 (in) "Mux inputs", 23 IN2 (in) "Mux inputs", 24 IN3 (in) "Mux inputs", 25 EP (power)
part B pins: 1 NC "No connection", 2 NC "No connection", 3 NC "No connection", 4 NC "No connection"

## ADS8331IPW
designator U?
2.7 to 5.5 V, 16-Bit 500 kSPS Low Power Serial ADC, -40 to 85 degC, 24-pin SOP (PW24), Green (RoHS & no Sb/Br); Manufacturer: Texas Instruments; PartNumber: ADS8331IPW; # Input Channels: 4; Analog Voltage AV/DD(Max)(V): 5.5; Analog Voltage AV/DD(Min)(V): 2.7; Architecture: SAR; Digital Supply(Min)(V): 1.65; INL(Max)(+/-LSB): 3; Resolution(Bits): 16; Sample Rate (max)(SPS): 500k; SFDR(dB): 103; SINAD(dB): 87.5; SNR(dB): 88; SubFamily: Precision ADC (<=10MSPS); DatasheetVersion: SBAS363C; PackageVersion: 4040064-6/G, 02/2011; PackageReference: PW24; PackageDescription: 24-Pin Plastic Small Outline, Body 7.8 x 4.4 mm, Pitch 0.65 mm; Supplier 1: Digi-Key; Supplier Part Number 1: ADS7818EBTR-ND; Digital Supply(Max)(V): 5.5; Eco-Plan: Green (RoHS & no Sb/Br); Mounting Technology: Surface Mount; Code_JEDEC: MO-153; ComponentLink1Description: Manufacturer URL; ComponentLink1URL: http://www.ti.com/; ComponentLink2Description: Datasheet; ComponentLink2URL: http://www.ti.com/general/docs/lit/getliterature.tsp?genericPartNumber=ADS8331&fileType=pdf; ComponentLink3Description: Package Specification; ComponentLink3URL: http://www.ti.com/litv/pdf/mpds363
footprint TI-PW24_N (SOP, 24-Leads, Body 7.8x4.4mm, Pitch 0.65mm, IPC Medium Density)
footprint TI-PW24_L (SOP, 24-Leads, Body 7.8x4.4mm, Pitch 0.65mm, IPC High Density)
footprint TI-PW24_M (SOP, 24-Leads, Body 7.8x4.4mm, Pitch 0.65mm, IPC Low Density)
part A pins: 1 IN1 (in) "Mux inputs", 2 IN2 (in) "Mux inputs", 3 IN3 (in) "Mux inputs", 8 ~{RESET} (in) "External reset (active low)", 9 EOC/~{INT}/CDI (io), 10 SCLK (in) "SPI clock for serial interface", 11 FS/~{CS} (in), 12 SDI (in) "SPI serial data in", 13 SDO (hiz) "SPI serial data out", 14 DGND (power) "Digital interface ground", 15 ~{CONVST} (in) "Conversion start. Freezes sample and hold, starts conversion.", 16 VBD (power) "Digital interface supply", 17 VA (power) "Analog supply, +2.7V to +5.5V", 18 REF+ (in) "External reference input", 19 REF- (in) "External reference ground (connect to AGND through an individual via on the printed circuit board)", 20 AGND (power) "Analog ground", 21 ADCIN (in) "ADC input", 22 MUXOUT (out) "Mux output", 23 COM (in) "Common ADC input (usually connected to AGND)", 24 IN0 (in) "Mux inputs"
part B pins: 4 NC "No connection", 5 NC "No connection", 6 NC "No connection", 7 NC "No connection"

## ADS8331IPWR
designator U?
2.7 to 5.5 V, 16-Bit 500 kSPS Low Power Serial ADC, -40 to 85 degC, 24-pin SOP (PW24), Green (RoHS & no Sb/Br); Manufacturer: Texas Instruments; PartNumber: ADS8331IPWR; # Input Channels: 4; Analog Voltage AV/DD(Max)(V): 5.5; Analog Voltage AV/DD(Min)(V): 2.7; Architecture: SAR; Digital Supply(Min)(V): 1.65; INL(Max)(+/-LSB): 3; Resolution(Bits): 16; Sample Rate (max)(SPS): 500k; SFDR(dB): 103; SINAD(dB): 87.5; SNR(dB): 88; SubFamily: Precision ADC (<=10MSPS); DatasheetVersion: SBAS363C; PackageVersion: 4040064-6/G, 02/2011; PackageReference: PW24; PackageDescription: 24-Pin Plastic Small Outline, Body 7.8 x 4.4 mm, Pitch 0.65 mm; Supplier 1: Digi-Key; Supplier Part Number 1: ADS7818EB/250G4-ND; Digital Supply(Max)(V): 5.5; Eco-Plan: Green (RoHS & no Sb/Br); Mounting Technology: Surface Mount; Code_JEDEC: MO-153; ComponentLink1Description: Manufacturer URL; ComponentLink1URL: http://www.ti.com/; ComponentLink2Description: Datasheet; ComponentLink2URL: http://www.ti.com/general/docs/lit/getliterature.tsp?genericPartNumber=ADS8331&fileType=pdf; ComponentLink3Description: Package Specification; ComponentLink3URL: http://www.ti.com/litv/pdf/mpds363
footprint TI-PW24_N (SOP, 24-Leads, Body 7.8x4.4mm, Pitch 0.65mm, IPC Medium Density)
footprint TI-PW24_L (SOP, 24-Leads, Body 7.8x4.4mm, Pitch 0.65mm, IPC High Density)
footprint TI-PW24_M (SOP, 24-Leads, Body 7.8x4.4mm, Pitch 0.65mm, IPC Low Density)
part A pins: 1 IN1 (in) "Mux inputs", 2 IN2 (in) "Mux inputs", 3 IN3 (in) "Mux inputs", 8 ~{RESET} (in) "External reset (active low)", 9 EOC/~{INT}/CDI (io), 10 SCLK (in) "SPI clock for serial interface", 11 FS/~{CS} (in), 12 SDI (in) "SPI serial data in", 13 SDO (hiz) "SPI serial data out", 14 DGND (power) "Digital interface ground", 15 ~{CONVST} (in) "Conversion start. Freezes sample and hold, starts conversion.", 16 VBD (power) "Digital interface supply", 17 VA (power) "Analog supply, +2.7V to +5.5V", 18 REF+ (in) "External reference input", 19 REF- (in) "External reference ground (connect to AGND through an individual via on the printed circuit board)", 20 AGND (power) "Analog ground", 21 ADCIN (in) "ADC input", 22 MUXOUT (out) "Mux output", 23 COM (in) "Common ADC input (usually connected to AGND)", 24 IN0 (in) "Mux inputs"
part B pins: 4 NC "No connection", 5 NC "No connection", 6 NC "No connection", 7 NC "No connection"

## ADS8331IRGER
designator U?
2.7 to 5.5 V, 16-Bit 500 kSPS Low Power Serial ADC, -40 to 85 degC, 24-pin QFN (RGE24), Green (RoHS & no Sb/Br); Manufacturer: Texas Instruments; PartNumber: ADS8331IRGER; # Input Channels: 4; Analog Voltage AV/DD(Max)(V): 5.5; Analog Voltage AV/DD(Min)(V): 2.7; Architecture: SAR; Digital Supply(Min)(V): 1.65; INL(Max)(+/-LSB): 3; Resolution(Bits): 16; Sample Rate (max)(SPS): 500k; SFDR(dB): 103; SINAD(dB): 87.5; SNR(dB): 88; SubFamily: Precision ADC (<=10MSPS); DatasheetVersion: SBAS363C; PackageVersion: 4204104/G, 07/2011; PackageReference: RGE24-2800X2800TP; PackageDescription: 24-Pin Plastic Flat Pack, Body 4 x 4 mm, Pitch 0.5 mm; Supplier 1: Digi-Key; Supplier Part Number 1: ADS7818EB/2K5-ND; Digital Supply(Max)(V): 5.5; Eco-Plan: Green (RoHS & no Sb/Br); Mounting Technology: Surface Mount; Code_JEDEC: MO-220; ComponentLink1Description: Manufacturer URL; ComponentLink1URL: http://www.ti.com/; ComponentLink2Description: Datasheet; ComponentLink2URL: http://www.ti.com/general/docs/lit/getliterature.tsp?genericPartNumber=ADS8331&fileType=pdf; ComponentLink3Description: Package Specification; ComponentLink3URL: http://www.ti.com/litv/pdf/mpqf124f
footprint TI-RGE24-2800X2800TP_V (QFN, 24-Leads, Body 4x4mm, Pitch 0.5mm, Thermal Pad 2.8X2.8mm)
part A pins: 5 ~{RESET} (in) "External reset (active low)", 6 EOC/~{INT}/CDI (io), 7 SCLK (in) "SPI clock for serial interface", 8 FS/~{CS} (in), 9 SDI (in) "SPI serial data in", 10 SDO (hiz) "SPI serial data out", 11 DGND (power) "Digital interface ground", 12 ~{CONVST} (in) "Conversion start. Freezes sample and hold, starts conversion.", 13 VBD (power) "Digital interface supply", 14 VA (power) "Analog supply, +2.7V to +5.5V", 15 REF+ (in) "External reference input", 16 REF- (in) "External reference ground (connect to AGND through an individual via on the printed circuit board)", 17 AGND (power) "Analog ground", 18 ADCIN (in) "ADC input", 19 MUXOUT (out) "Mux output", 20 COM (in) "Common ADC input (usually connected to AGND)", 21 IN0 (in) "Mux inputs", 22 IN1 (in) "Mux inputs", 23 IN2 (in) "Mux inputs", 24 IN3 (in) "Mux inputs", 25 EP (power)
part B pins: 1 NC "No connection", 2 NC "No connection", 3 NC "No connection", 4 NC "No connection"

## ADS8331IRGET
designator U?
2.7 to 5.5 V, 16-Bit 500 kSPS Low Power Serial ADC, -40 to 85 degC, 24-pin QFN (RGE24), Green (RoHS & no Sb/Br); Manufacturer: Texas Instruments; PartNumber: ADS8331IRGET; # Input Channels: 4; Analog Voltage AV/DD(Max)(V): 5.5; Analog Voltage AV/DD(Min)(V): 2.7; Architecture: SAR; Digital Supply(Min)(V): 1.65; INL(Max)(+/-LSB): 3; Resolution(Bits): 16; Sample Rate (max)(SPS): 500k; SFDR(dB): 103; SINAD(dB): 87.5; SNR(dB): 88; SubFamily: Precision ADC (<=10MSPS); DatasheetVersion: SBAS363C; PackageVersion: 4204104/G, 07/2011; PackageReference: RGE24-2800X2800TP; PackageDescription: 24-Pin Plastic Flat Pack, Body 4 x 4 mm, Pitch 0.5 mm; Supplier 1: Digi-Key; Supplier Part Number 1: ADS7818EB/2K5G4-ND; Digital Supply(Max)(V): 5.5; Eco-Plan: Green (RoHS & no Sb/Br); Mounting Technology: Surface Mount; Code_JEDEC: MO-220; ComponentLink1Description: Manufacturer URL; ComponentLink1URL: http://www.ti.com/; ComponentLink2Description: Datasheet; ComponentLink2URL: http://www.ti.com/general/docs/lit/getliterature.tsp?genericPartNumber=ADS8331&fileType=pdf; ComponentLink3Description: Package Specification; ComponentLink3URL: http://www.ti.com/litv/pdf/mpqf124f
footprint TI-RGE24-2800X2800TP_V (QFN, 24-Leads, Body 4x4mm, Pitch 0.5mm, Thermal Pad 2.8X2.8mm)
part A pins: 5 ~{RESET} (in) "External reset (active low)", 6 EOC/~{INT}/CDI (io), 7 SCLK (in) "SPI clock for serial interface", 8 FS/~{CS} (in), 9 SDI (in) "SPI serial data in", 10 SDO (hiz) "SPI serial data out", 11 DGND (power) "Digital interface ground", 12 ~{CONVST} (in) "Conversion start. Freezes sample and hold, starts conversion.", 13 VBD (power) "Digital interface supply", 14 VA (power) "Analog supply, +2.7V to +5.5V", 15 REF+ (in) "External reference input", 16 REF- (in) "External reference ground (connect to AGND through an individual via on the printed circuit board)", 17 AGND (power) "Analog ground", 18 ADCIN (in) "ADC input", 19 MUXOUT (out) "Mux output", 20 COM (in) "Common ADC input (usually connected to AGND)", 21 IN0 (in) "Mux inputs", 22 IN1 (in) "Mux inputs", 23 IN2 (in) "Mux inputs", 24 IN3 (in) "Mux inputs", 25 EP (power)
part B pins: 1 NC "No connection", 2 NC "No connection", 3 NC "No connection", 4 NC "No connection"

## ADS8332IBPW
designator U?
2.7 to 5.5 V, 16-Bit 500 kSPS Low Power Serial ADC, 8-Channel MUX and Breakout, -40 to 85 degC, 24-pin SOP (PW24), Green (RoHS & no Sb/Br); Manufacturer: Texas Instruments; PartNumber: ADS8332IBPW; # Input Channels: 8; Analog Voltage AV/DD(Max)(V): 5.5; Analog Voltage AV/DD(Min)(V): 2.7; Architecture: SAR; Digital Supply(Min)(V): 1.65; INL(Max)(+/-LSB): 2; Resolution(Bits): 16; Sample Rate (max)(SPS): 500k; SFDR(dB): 103; SINAD(dB): 88.5; SNR(dB): 89; SubFamily: Precision ADC (<=10MSPS); DatasheetVersion: SBAS363C; PackageVersion: 4040064-6/G, 02/2011; PackageReference: PW24; PackageDescription: 24-Pin Plastic Small Outline, Body 7.8 x 4.4 mm, Pitch 0.65 mm; Supplier 1: Digi-Key; Supplier Part Number 1: ADS7818P-ND; Digital Supply(Max)(V): 5.5; Eco-Plan: Green (RoHS & no Sb/Br); Mounting Technology: Surface Mount; Code_JEDEC: MO-153; ComponentLink1Description: Manufacturer URL; ComponentLink1URL: http://www.ti.com/; ComponentLink2Description: Datasheet; ComponentLink2URL: http://www.ti.com/general/docs/lit/getliterature.tsp?genericPartNumber=ADS8332&fileType=pdf; ComponentLink3Description: Package Specification; ComponentLink3URL: http://www.ti.com/litv/pdf/mpds363
footprint TI-PW24_N (SOP, 24-Leads, Body 7.8x4.4mm, Pitch 0.65mm, IPC Medium Density)
footprint TI-PW24_L (SOP, 24-Leads, Body 7.8x4.4mm, Pitch 0.65mm, IPC High Density)
footprint TI-PW24_M (SOP, 24-Leads, Body 7.8x4.4mm, Pitch 0.65mm, IPC Low Density)
pins: 1 IN1 (in) "Mux inputs", 2 IN2 (in) "Mux inputs", 3 IN3 (in) "Mux inputs", 4 IN4 (in) "Mux inputs", 5 IN5 (in) "Mux inputs", 6 IN6 (in) "Mux inputs", 7 IN7 (in) "Mux inputs", 8 ~{RESET} (in) "External reset (active low)", 9 EOC/~{INT}/CDI (io), 10 SCLK (in) "SPI clock for serial interface", 11 FS/~{CS} (in), 12 SDI (in) "SPI serial data in", 13 SDO (hiz) "SPI serial data out", 14 DGND (power) "Digital interface ground", 15 ~{CONVST} (in) "Conversion start. Freezes sample and hold, starts conversion.", 16 VBD (power) "Digital interface supply", 17 VA (power) "Analog supply, +2.7V to +5.5V", 18 REF+ (in) "External reference input", 19 REF- (in) "External reference ground (connect to AGND through an individual via on the printed circuit board)", 20 AGND (power) "Analog ground", 21 ADCIN (in) "ADC input", 22 MUXOUT (out) "Mux output", 23 COM (in) "Common ADC input (usually connected to AGND)", 24 IN0 (in) "Mux inputs"

## ADS8332IBPWR
designator U?
2.7 to 5.5 V, 16-Bit 500 kSPS Low Power Serial ADC, 8-Channel MUX and Breakout, -40 to 85 degC, 24-pin SOP (PW24), Green (RoHS & no Sb/Br); Manufacturer: Texas Instruments; PartNumber: ADS8332IBPWR; # Input Channels: 8; Analog Voltage AV/DD(Max)(V): 5.5; Analog Voltage AV/DD(Min)(V): 2.7; Architecture: SAR; Digital Supply(Min)(V): 1.65; INL(Max)(+/-LSB): 2; Resolution(Bits): 16; Sample Rate (max)(SPS): 500k; SFDR(dB): 103; SINAD(dB): 88.5; SNR(dB): 89; SubFamily: Precision ADC (<=10MSPS); DatasheetVersion: SBAS363C; PackageVersion: 4040064-6/G, 02/2011; PackageReference: PW24; PackageDescription: 24-Pin Plastic Small Outline, Body 7.8 x 4.4 mm, Pitch 0.65 mm; Supplier 1: Digi-Key; Supplier Part Number 1: ADS7818PB-ND; Digital Supply(Max)(V): 5.5; Eco-Plan: Green (RoHS & no Sb/Br); Mounting Technology: Surface Mount; Code_JEDEC: MO-153; ComponentLink1Description: Manufacturer URL; ComponentLink1URL: http://www.ti.com/; ComponentLink2Description: Datasheet; ComponentLink2URL: http://www.ti.com/general/docs/lit/getliterature.tsp?genericPartNumber=ADS8332&fileType=pdf; ComponentLink3Description: Package Specification; ComponentLink3URL: http://www.ti.com/litv/pdf/mpds363
footprint TI-PW24_N (SOP, 24-Leads, Body 7.8x4.4mm, Pitch 0.65mm, IPC Medium Density)
footprint TI-PW24_L (SOP, 24-Leads, Body 7.8x4.4mm, Pitch 0.65mm, IPC High Density)
footprint TI-PW24_M (SOP, 24-Leads, Body 7.8x4.4mm, Pitch 0.65mm, IPC Low Density)
pins: 1 IN1 (in) "Mux inputs", 2 IN2 (in) "Mux inputs", 3 IN3 (in) "Mux inputs", 4 IN4 (in) "Mux inputs", 5 IN5 (in) "Mux inputs", 6 IN6 (in) "Mux inputs", 7 IN7 (in) "Mux inputs", 8 ~{RESET} (in) "External reset (active low)", 9 EOC/~{INT}/CDI (io), 10 SCLK (in) "SPI clock for serial interface", 11 FS/~{CS} (in), 12 SDI (in) "SPI serial data in", 13 SDO (hiz) "SPI serial data out", 14 DGND (power) "Digital interface ground", 15 ~{CONVST} (in) "Conversion start. Freezes sample and hold, starts conversion.", 16 VBD (power) "Digital interface supply", 17 VA (power) "Analog supply, +2.7V to +5.5V", 18 REF+ (in) "External reference input", 19 REF- (in) "External reference ground (connect to AGND through an individual via on the printed circuit board)", 20 AGND (power) "Analog ground", 21 ADCIN (in) "ADC input", 22 MUXOUT (out) "Mux output", 23 COM (in) "Common ADC input (usually connected to AGND)", 24 IN0 (in) "Mux inputs"

## ADS8332IBRGER
designator U?
2.7 to 5.5 V, 16-Bit 500 kSPS Low Power Serial ADC, 8-Channel MUX and Breakout, -40 to 85 degC, 24-pin QFN (RGE24), Green (RoHS & no Sb/Br); Manufacturer: Texas Instruments; PartNumber: ADS8332IBRGER; # Input Channels: 8; Analog Voltage AV/DD(Max)(V): 5.5; Analog Voltage AV/DD(Min)(V): 2.7; Architecture: SAR; Digital Supply(Min)(V): 1.65; INL(Max)(+/-LSB): 2; Resolution(Bits): 16; Sample Rate (max)(SPS): 500k; SFDR(dB): 103; SINAD(dB): 88.5; SNR(dB): 89; SubFamily: Precision ADC (<=10MSPS); DatasheetVersion: SBAS363C; PackageVersion: 4204104/G, 07/2011; PackageReference: RGE24-2800X2800TP; PackageDescription: 24-Pin Plastic Flat Pack, Body 4 x 4 mm, Pitch 0.5 mm; Supplier 1: Digi-Key; Supplier Part Number 1: ADS7818PBG4-ND; Digital Supply(Max)(V): 5.5; Eco-Plan: Green (RoHS & no Sb/Br); Mounting Technology: Surface Mount; Code_JEDEC: MO-220; ComponentLink1Description: Manufacturer URL; ComponentLink1URL: http://www.ti.com/; ComponentLink2Description: Datasheet; ComponentLink2URL: http://www.ti.com/general/docs/lit/getliterature.tsp?genericPartNumber=ADS8332&fileType=pdf; ComponentLink3Description: Package Specification; ComponentLink3URL: http://www.ti.com/litv/pdf/mpqf124f
footprint TI-RGE24-2800X2800TP_V (QFN, 24-Leads, Body 4x4mm, Pitch 0.5mm, Thermal Pad 2.8X2.8mm)
pins: 1 IN4 (in) "Mux inputs", 2 IN5 (in) "Mux inputs", 3 IN6 (in) "Mux inputs", 4 IN7 (in) "Mux inputs", 5 ~{RESET} (in) "External reset (active low)", 6 EOC/~{INT}/CDI (io) "Status output. If programmed as end-of-conversion (EOC), this pin is low (default) when a conversion is in progress. If programmed as an interrupt (I\N\T\), this pin is low (default) after the end of conversion and returns (See Datasheet)", 7 SCLK (in) "SPI clock for serial interface", 8 FS/~{CS} (in) "Frame sync signal for DSP (such as TMS320(TM) DSP) or chip select input for SPI.", 9 SDI (in) "SPI serial data in", 10 SDO (hiz) "SPI serial data out", 11 DGND (power) "Digital interface ground", 12 ~{CONVST} (in) "Conversion start. Freezes sample and hold, starts conversion.", 13 VBD (power) "Digital interface supply", 14 VA (power) "Analog supply, +2.7 V to +5.5 V", 15 REF+ (in) "External reference input", 16 REF- (in) "External reference ground (connect to AGND through an individual via on the printed circuit board)", 17 AGND (power) "Analog ground", 18 ADCIN (in) "ADC input", 19 MUXOUT (out) "Mux output", 20 COM (in) "Common ADC input (usually connected to AGND)", 21 IN0 (in) "Mux inputs", 22 IN1 (in) "Mux inputs", 23 IN2 (in) "Mux inputs", 24 IN3 (in) "Mux inputs", 25 EP (power)

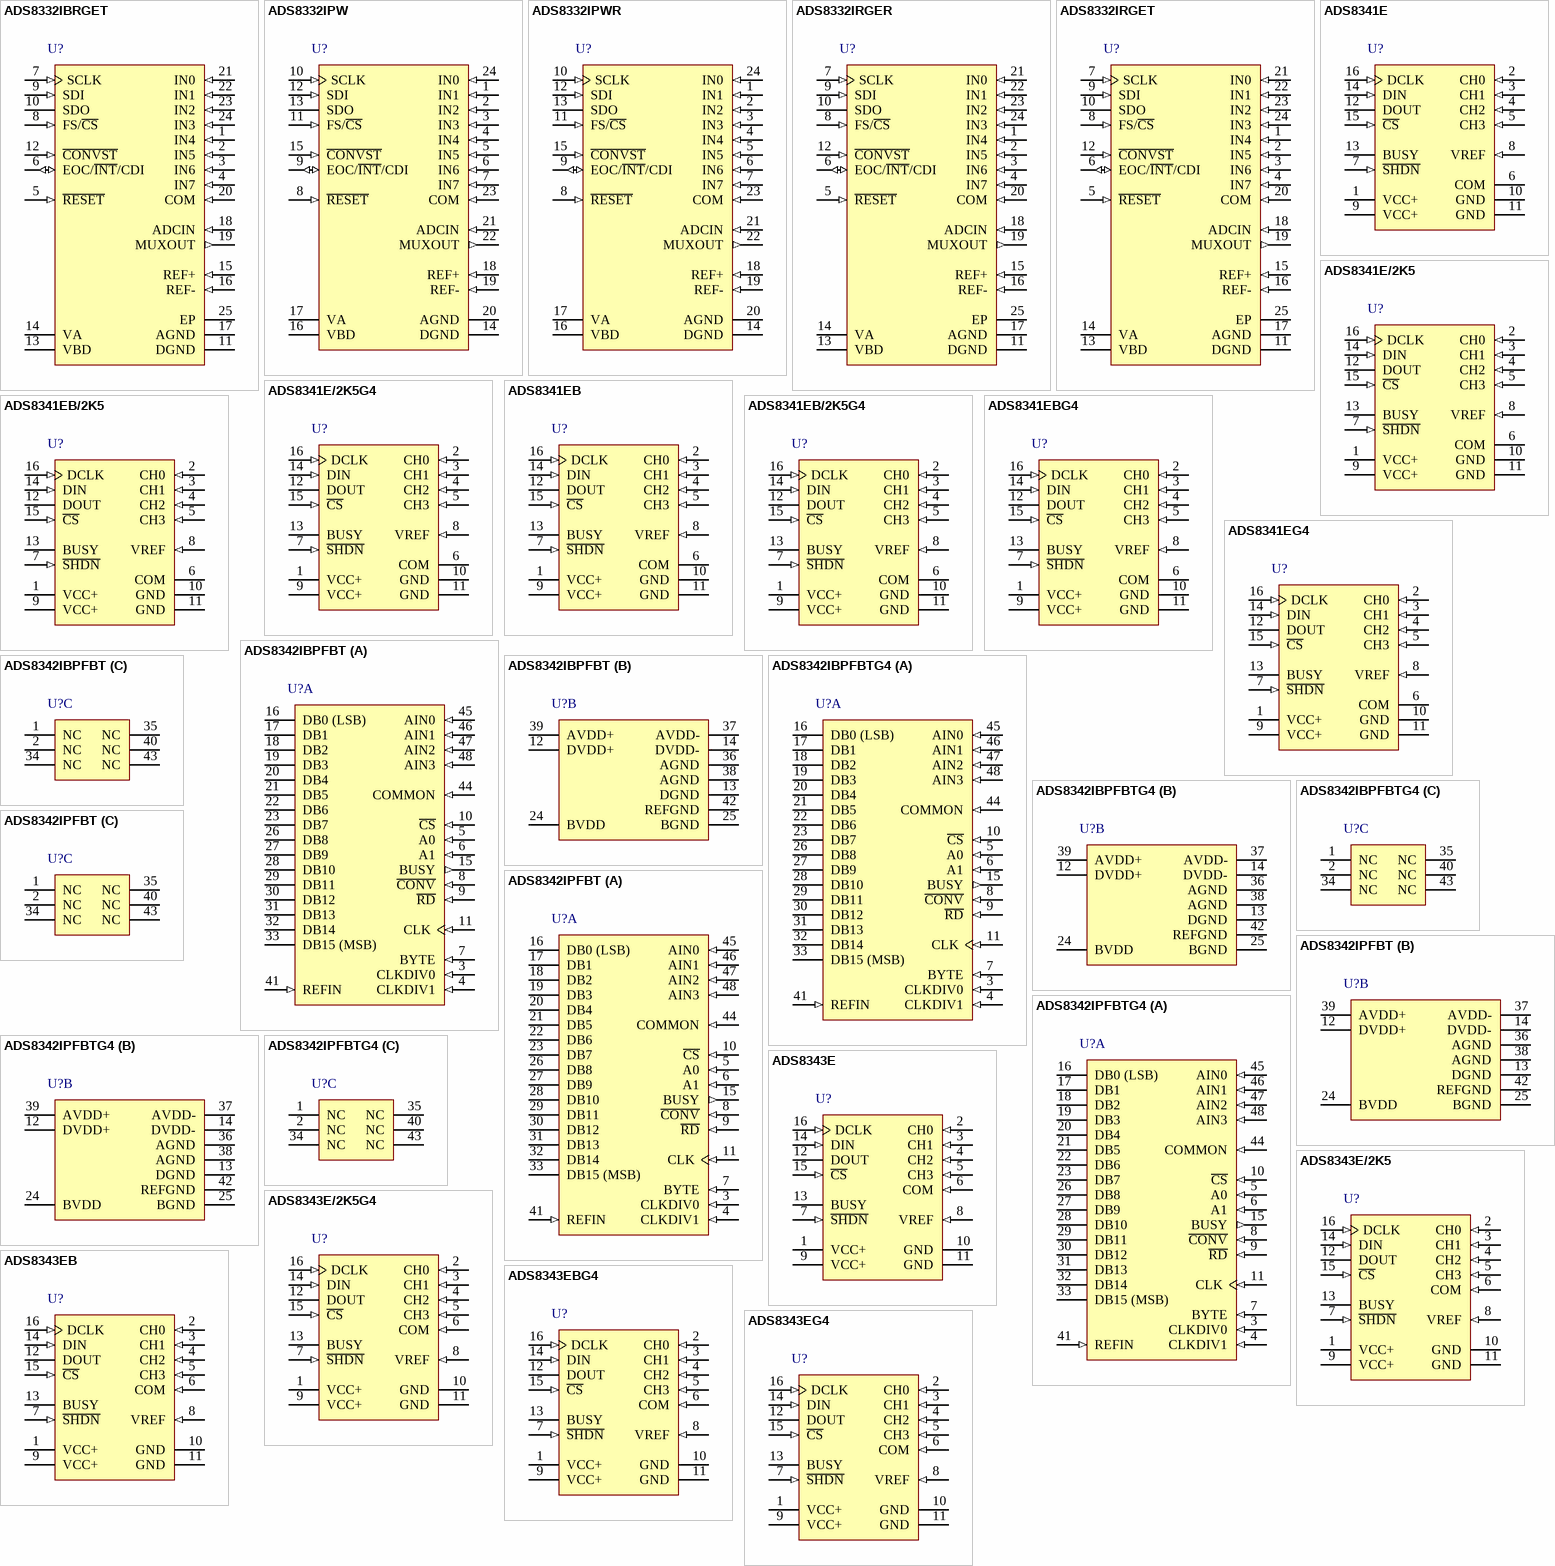
[diagram p75: symbols ADS8332IBRGET to ADS8343EG4]

## ADS8332IBRGET
designator U?
2.7 to 5.5 V, 16-Bit 500 kSPS Low Power Serial ADC, 8-Channel MUX and Breakout, -40 to 85 degC, 24-pin QFN (RGE24), Green (RoHS & no Sb/Br); Manufacturer: Texas Instruments; PartNumber: ADS8332IBRGET; # Input Channels: 8; Analog Voltage AV/DD(Max)(V): 5.5; Analog Voltage AV/DD(Min)(V): 2.7; Architecture: SAR; Digital Supply(Min)(V): 1.65; INL(Max)(+/-LSB): 2; Resolution(Bits): 16; Sample Rate (max)(SPS): 500k; SFDR(dB): 103; SINAD(dB): 88.5; SNR(dB): 89; SubFamily: Precision ADC (<=10MSPS); DatasheetVersion: SBAS363C; PackageVersion: 4204104/G, 07/2011; PackageReference: RGE24-2800X2800TP; PackageDescription: 24-Pin Plastic Flat Pack, Body 4 x 4 mm, Pitch 0.5 mm; Supplier 1: Digi-Key; Supplier Part Number 1: ADS7818PG4-ND; Digital Supply(Max)(V): 5.5; Eco-Plan: Green (RoHS & no Sb/Br); Mounting Technology: Surface Mount; Code_JEDEC: MO-220; ComponentLink1Description: Manufacturer URL; ComponentLink1URL: http://www.ti.com/; ComponentLink2Description: Datasheet; ComponentLink2URL: http://www.ti.com/general/docs/lit/getliterature.tsp?genericPartNumber=ADS8332&fileType=pdf; ComponentLink3Description: Package Specification; ComponentLink3URL: http://www.ti.com/litv/pdf/mpqf124f
footprint TI-RGE24-2800X2800TP_V (QFN, 24-Leads, Body 4x4mm, Pitch 0.5mm, Thermal Pad 2.8X2.8mm)
pins: 1 IN4 (in) "Mux inputs", 2 IN5 (in) "Mux inputs", 3 IN6 (in) "Mux inputs", 4 IN7 (in) "Mux inputs", 5 ~{RESET} (in) "External reset (active low)", 6 EOC/~{INT}/CDI (io) "Status output. If programmed as end-of-conversion (EOC), this pin is low (default) when a conversion is in progress. If programmed as an interrupt (I\N\T\), this pin is low (default) after the end of conversion and returns (See Datasheet)", 7 SCLK (in) "SPI clock for serial interface", 8 FS/~{CS} (in) "Frame sync signal for DSP (such as TMS320(TM) DSP) or chip select input for SPI.", 9 SDI (in) "SPI serial data in", 10 SDO (hiz) "SPI serial data out", 11 DGND (power) "Digital interface ground", 12 ~{CONVST} (in) "Conversion start. Freezes sample and hold, starts conversion.", 13 VBD (power) "Digital interface supply", 14 VA (power) "Analog supply, +2.7 V to +5.5 V", 15 REF+ (in) "External reference input", 16 REF- (in) "External reference ground (connect to AGND through an individual via on the printed circuit board)", 17 AGND (power) "Analog ground", 18 ADCIN (in) "ADC input", 19 MUXOUT (out) "Mux output", 20 COM (in) "Common ADC input (usually connected to AGND)", 21 IN0 (in) "Mux inputs", 22 IN1 (in) "Mux inputs", 23 IN2 (in) "Mux inputs", 24 IN3 (in) "Mux inputs", 25 EP (power)